# EAGLE library part SN74LVC1G18 (library SMARTBALL_v1)
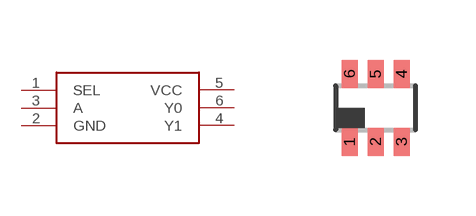
[diagram p4: symbol with the pads of DCK_R-PDSO-G6; footprint DCK_R-PDSO-G6]

Designator prefix -

## SN74LVC1G18  [DCK_R-PDSO-G6]
1  SEL
2  GND
3  A
4  Y1
5  VCC
6  Y0

## Footprint DCK_R-PDSO-G6 (pad centres in mm)
DCK (R-PDSO-G6) PLASTIC SMALL-OUTLINE PACKAGE SOT (SC-70) - DCK Source: http://focus.ti.com/lit/ds/symlink/sn74lvc1g3157.
smd 0.4 x 0.7: 1 -0.65,-0.85; 2 0,-0.85; 3 0.65,-0.85; 4 0.65,0.85; 5 0,0.85; 6 -0.65,0.85